# Altium schematic symbol library 10M08DCU324.SchLib: 1 symbol
Pins are listed as number, name and electrical type; pins without a type are passive.

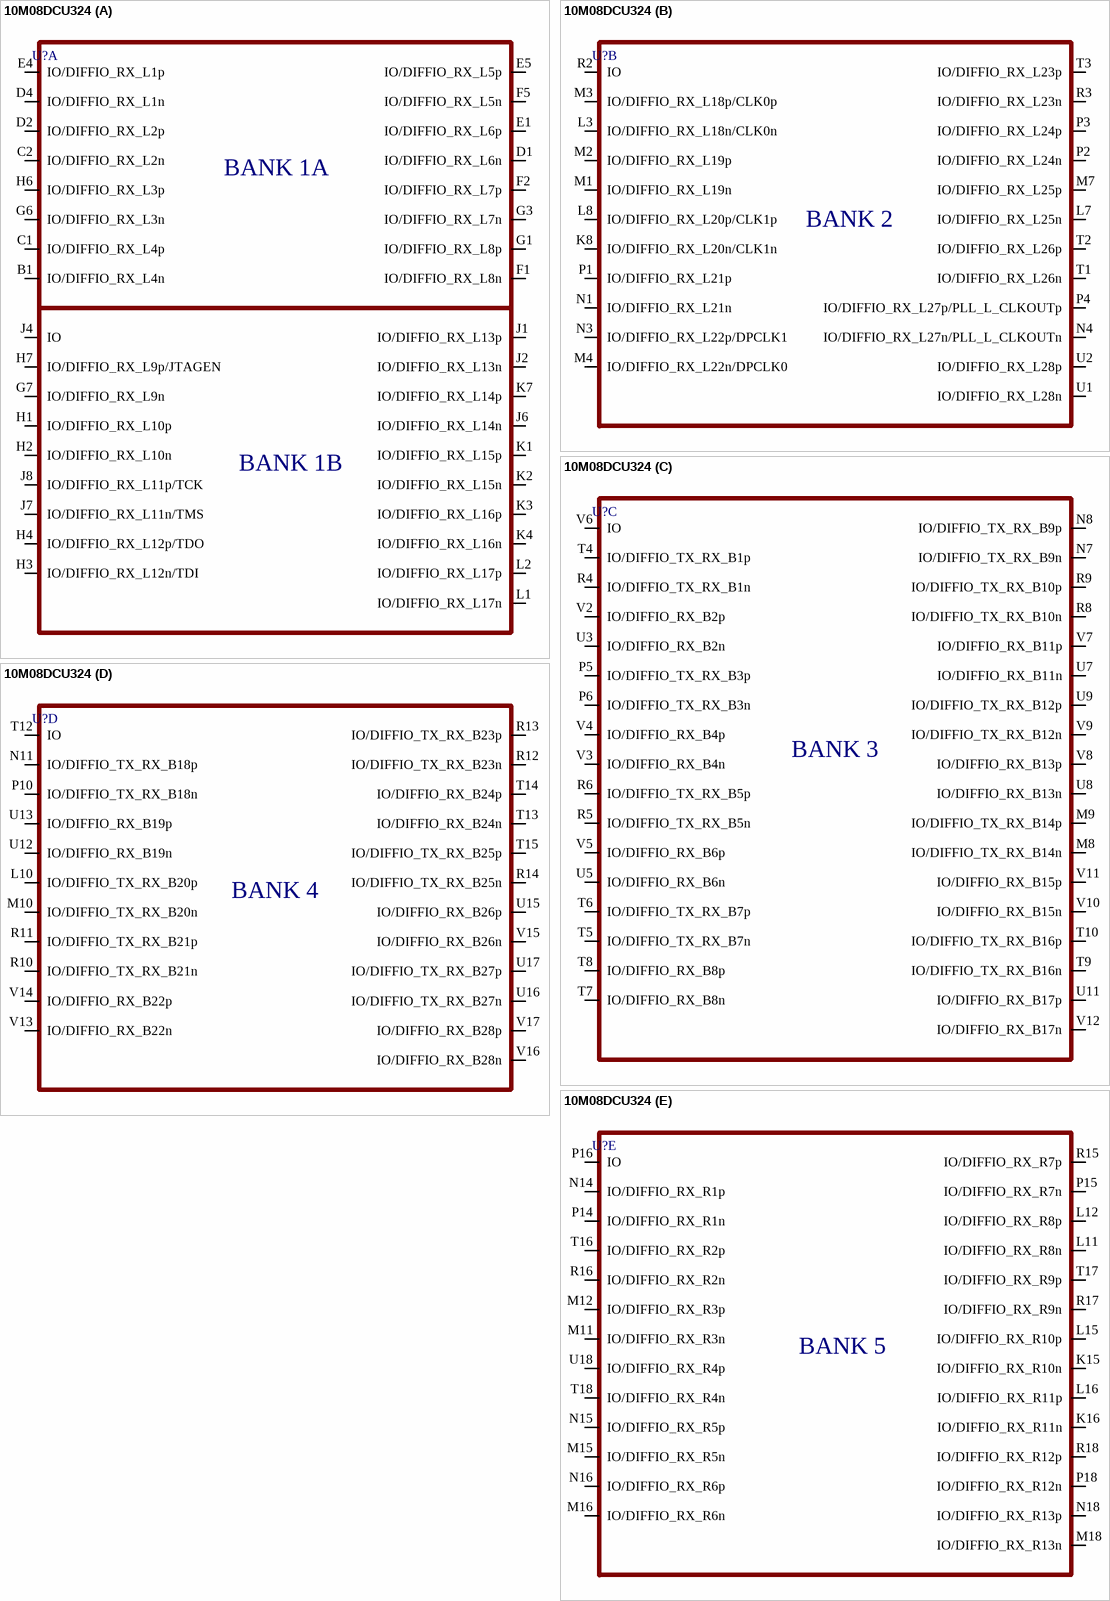
[diagram p0: symbol 10M08DCU324]

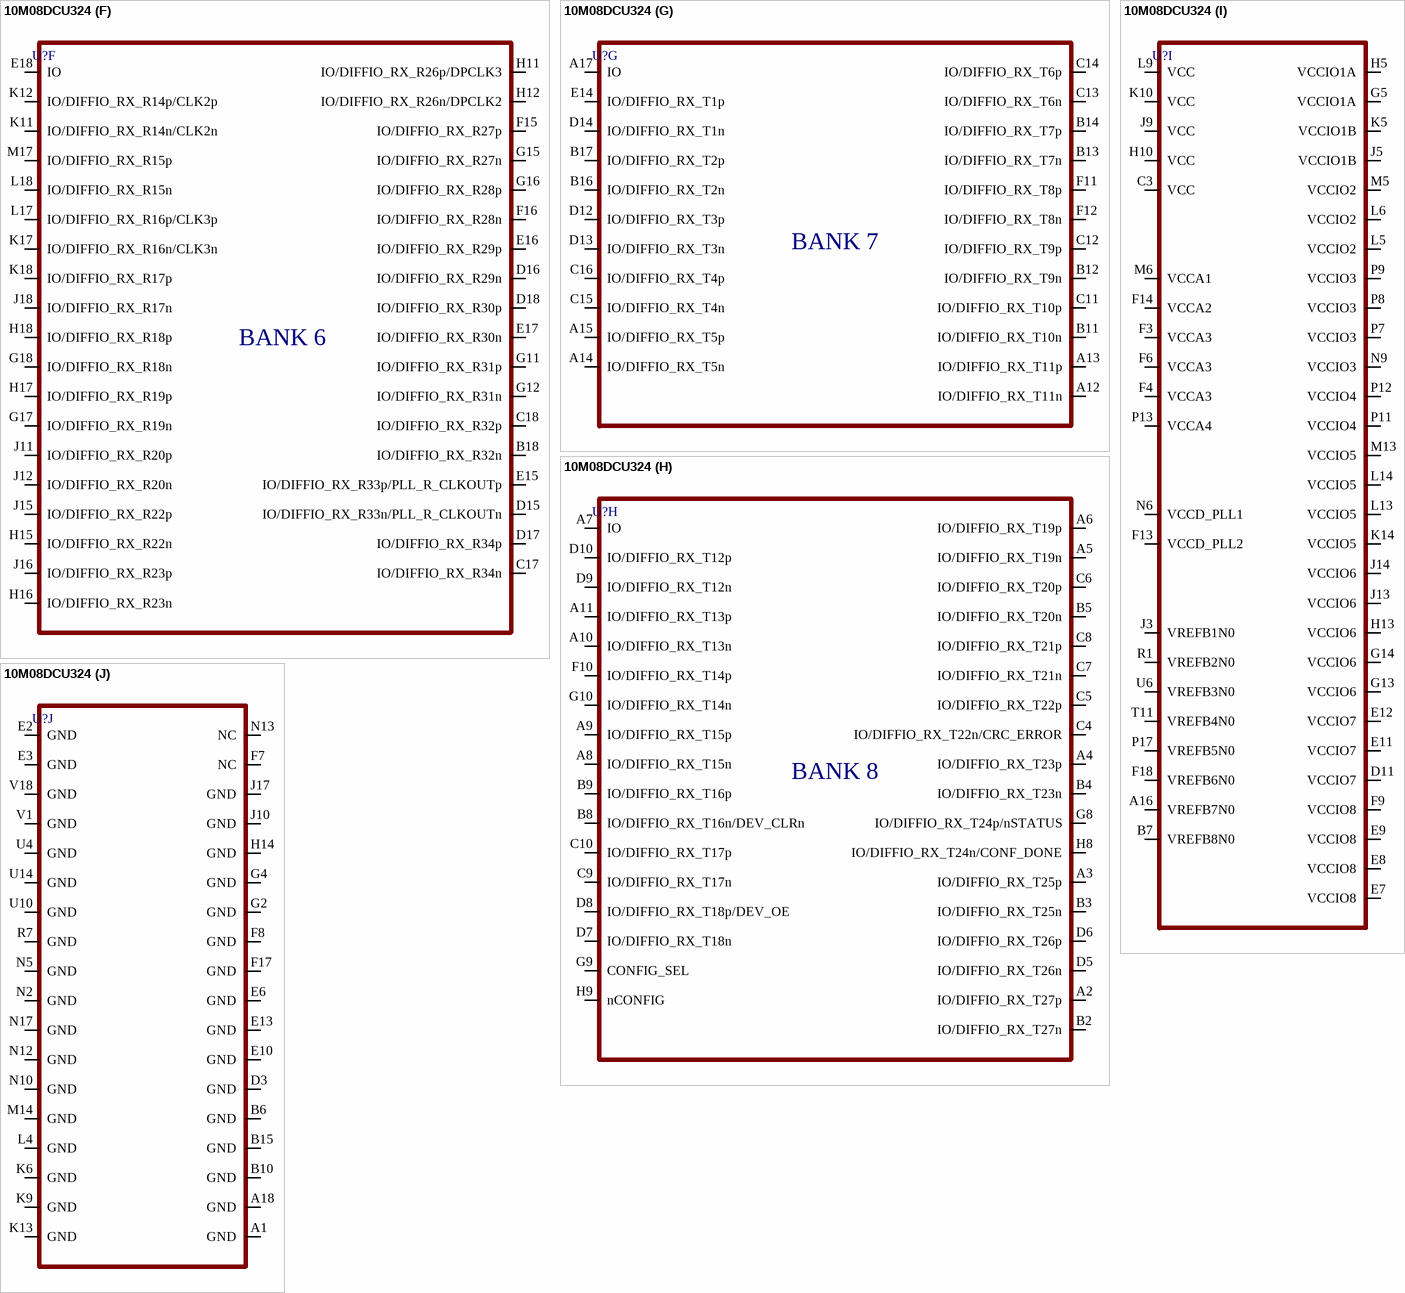
[diagram p1: symbol 10M08DCU324]

## 10M08DCU324
designator U?
part A pins: B1 IO/DIFFIO_RX_L4n, C1 IO/DIFFIO_RX_L4p, C2 IO/DIFFIO_RX_L2n, D1 IO/DIFFIO_RX_L6n, D2 IO/DIFFIO_RX_L2p, D4 IO/DIFFIO_RX_L1n, E1 IO/DIFFIO_RX_L6p, E4 IO/DIFFIO_RX_L1p, E5 IO/DIFFIO_RX_L5p, F1 IO/DIFFIO_RX_L8n, F2 IO/DIFFIO_RX_L7p, F5 IO/DIFFIO_RX_L5n, G1 IO/DIFFIO_RX_L8p, G3 IO/DIFFIO_RX_L7n, G6 IO/DIFFIO_RX_L3n, G7 IO/DIFFIO_RX_L9n, H1 IO/DIFFIO_RX_L10p, H2 IO/DIFFIO_RX_L10n, H3 IO/DIFFIO_RX_L12n/TDI, H4 IO/DIFFIO_RX_L12p/TDO, H6 IO/DIFFIO_RX_L3p, H7 IO/DIFFIO_RX_L9p/JTAGEN, J1 IO/DIFFIO_RX_L13p, J2 IO/DIFFIO_RX_L13n, J4 IO, J6 IO/DIFFIO_RX_L14n, J7 IO/DIFFIO_RX_L11n/TMS, J8 IO/DIFFIO_RX_L11p/TCK, K1 IO/DIFFIO_RX_L15p, K2 IO/DIFFIO_RX_L15n, K3 IO/DIFFIO_RX_L16p, K4 IO/DIFFIO_RX_L16n, K7 IO/DIFFIO_RX_L14p, L1 IO/DIFFIO_RX_L17n, L2 IO/DIFFIO_RX_L17p
part B pins: K8 IO/DIFFIO_RX_L20n/CLK1n, L3 IO/DIFFIO_RX_L18n/CLK0n, L7 IO/DIFFIO_RX_L25n, L8 IO/DIFFIO_RX_L20p/CLK1p, M1 IO/DIFFIO_RX_L19n, M2 IO/DIFFIO_RX_L19p, M3 IO/DIFFIO_RX_L18p/CLK0p, M4 IO/DIFFIO_RX_L22n/DPCLK0, M7 IO/DIFFIO_RX_L25p, N1 IO/DIFFIO_RX_L21n, N3 IO/DIFFIO_RX_L22p/DPCLK1, N4 IO/DIFFIO_RX_L27n/PLL_L_CLKOUTn, P1 IO/DIFFIO_RX_L21p, P2 IO/DIFFIO_RX_L24n, P3 IO/DIFFIO_RX_L24p, P4 IO/DIFFIO_RX_L27p/PLL_L_CLKOUTp, R2 IO, R3 IO/DIFFIO_RX_L23n, T1 IO/DIFFIO_RX_L26n, T2 IO/DIFFIO_RX_L26p, T3 IO/DIFFIO_RX_L23p, U1 IO/DIFFIO_RX_L28n, U2 IO/DIFFIO_RX_L28p
part C pins: M8 IO/DIFFIO_TX_RX_B14n, M9 IO/DIFFIO_TX_RX_B14p, N7 IO/DIFFIO_TX_RX_B9n, N8 IO/DIFFIO_TX_RX_B9p, P5 IO/DIFFIO_TX_RX_B3p, P6 IO/DIFFIO_TX_RX_B3n, R4 IO/DIFFIO_TX_RX_B1n, R5 IO/DIFFIO_TX_RX_B5n, R6 IO/DIFFIO_TX_RX_B5p, R8 IO/DIFFIO_TX_RX_B10n, R9 IO/DIFFIO_TX_RX_B10p, T4 IO/DIFFIO_TX_RX_B1p, T5 IO/DIFFIO_TX_RX_B7n, T6 IO/DIFFIO_TX_RX_B7p, T7 IO/DIFFIO_RX_B8n, T8 IO/DIFFIO_RX_B8p, T9 IO/DIFFIO_TX_RX_B16n, T10 IO/DIFFIO_TX_RX_B16p, U3 IO/DIFFIO_RX_B2n, U5 IO/DIFFIO_RX_B6n, U7 IO/DIFFIO_RX_B11n, U8 IO/DIFFIO_RX_B13n, U9 IO/DIFFIO_TX_RX_B12p, U11 IO/DIFFIO_RX_B17p, V2 IO/DIFFIO_RX_B2p, V3 IO/DIFFIO_RX_B4n, V4 IO/DIFFIO_RX_B4p, V5 IO/DIFFIO_RX_B6p, V6 IO, V7 IO/DIFFIO_RX_B11p, V8 IO/DIFFIO_RX_B13p, V9 IO/DIFFIO_TX_RX_B12n, V10 IO/DIFFIO_RX_B15n, V11 IO/DIFFIO_RX_B15p, V12 IO/DIFFIO_RX_B17n
part D pins: L10 IO/DIFFIO_TX_RX_B20p, M10 IO/DIFFIO_TX_RX_B20n, N11 IO/DIFFIO_TX_RX_B18p, P10 IO/DIFFIO_TX_RX_B18n, R10 IO/DIFFIO_TX_RX_B21n, R11 IO/DIFFIO_TX_RX_B21p, R12 IO/DIFFIO_TX_RX_B23n, R13 IO/DIFFIO_TX_RX_B23p, R14 IO/DIFFIO_TX_RX_B25n, T12 IO, T13 IO/DIFFIO_RX_B24n, T14 IO/DIFFIO_RX_B24p, T15 IO/DIFFIO_TX_RX_B25p, U12 IO/DIFFIO_RX_B19n, U13 IO/DIFFIO_RX_B19p, U15 IO/DIFFIO_RX_B26p, U16 IO/DIFFIO_TX_RX_B27n, U17 IO/DIFFIO_TX_RX_B27p, V13 IO/DIFFIO_RX_B22n, V14 IO/DIFFIO_RX_B22p, V15 IO/DIFFIO_RX_B26n, V16 IO/DIFFIO_RX_B28n, V17 IO/DIFFIO_RX_B28p
part E pins: K15 IO/DIFFIO_RX_R10n, K16 IO/DIFFIO_RX_R11n, L11 IO/DIFFIO_RX_R8n, L12 IO/DIFFIO_RX_R8p, L15 IO/DIFFIO_RX_R10p, L16 IO/DIFFIO_RX_R11p, M11 IO/DIFFIO_RX_R3n, M12 IO/DIFFIO_RX_R3p, M15 IO/DIFFIO_RX_R5n, M16 IO/DIFFIO_RX_R6n, M18 IO/DIFFIO_RX_R13n, N14 IO/DIFFIO_RX_R1p, N15 IO/DIFFIO_RX_R5p, N16 IO/DIFFIO_RX_R6p, N18 IO/DIFFIO_RX_R13p, P14 IO/DIFFIO_RX_R1n, P15 IO/DIFFIO_RX_R7n, P16 IO, P18 IO/DIFFIO_RX_R12n, R15 IO/DIFFIO_RX_R7p, R16 IO/DIFFIO_RX_R2n, R17 IO/DIFFIO_RX_R9n, R18 IO/DIFFIO_RX_R12p, T16 IO/DIFFIO_RX_R2p, T17 IO/DIFFIO_RX_R9p, T18 IO/DIFFIO_RX_R4n, U18 IO/DIFFIO_RX_R4p
part F pins: B18 IO/DIFFIO_RX_R32n, C17 IO/DIFFIO_RX_R34n, C18 IO/DIFFIO_RX_R32p, D15 IO/DIFFIO_RX_R33n/PLL_R_CLKOUTn, D16 IO/DIFFIO_RX_R29n, D17 IO/DIFFIO_RX_R34p, D18 IO/DIFFIO_RX_R30p, E15 IO/DIFFIO_RX_R33p/PLL_R_CLKOUTp, E16 IO/DIFFIO_RX_R29p, E17 IO/DIFFIO_RX_R30n, E18 IO, F15 IO/DIFFIO_RX_R27p, F16 IO/DIFFIO_RX_R28n, G11 IO/DIFFIO_RX_R31p, G12 IO/DIFFIO_RX_R31n, G15 IO/DIFFIO_RX_R27n, G16 IO/DIFFIO_RX_R28p, G17 IO/DIFFIO_RX_R19n, G18 IO/DIFFIO_RX_R18n, H11 IO/DIFFIO_RX_R26p/DPCLK3, H12 IO/DIFFIO_RX_R26n/DPCLK2, H15 IO/DIFFIO_RX_R22n, H16 IO/DIFFIO_RX_R23n, H17 IO/DIFFIO_RX_R19p, H18 IO/DIFFIO_RX_R18p, J11 IO/DIFFIO_RX_R20p, J12 IO/DIFFIO_RX_R20n, J15 IO/DIFFIO_RX_R22p, J16 IO/DIFFIO_RX_R23p, J18 IO/DIFFIO_RX_R17n, K11 IO/DIFFIO_RX_R14n/CLK2n, K12 IO/DIFFIO_RX_R14p/CLK2p, K17 IO/DIFFIO_RX_R16n/CLK3n, K18 IO/DIFFIO_RX_R17p, L17 IO/DIFFIO_RX_R16p/CLK3p, L18 IO/DIFFIO_RX_R15n, M17 IO/DIFFIO_RX_R15p
part G pins: A12 IO/DIFFIO_RX_T11n, A13 IO/DIFFIO_RX_T11p, A14 IO/DIFFIO_RX_T5n, A15 IO/DIFFIO_RX_T5p, A17 IO, B11 IO/DIFFIO_RX_T10n, B12 IO/DIFFIO_RX_T9n, B13 IO/DIFFIO_RX_T7n, B14 IO/DIFFIO_RX_T7p, B16 IO/DIFFIO_RX_T2n, B17 IO/DIFFIO_RX_T2p, C11 IO/DIFFIO_RX_T10p, C12 IO/DIFFIO_RX_T9p, C13 IO/DIFFIO_RX_T6n, C14 IO/DIFFIO_RX_T6p, C15 IO/DIFFIO_RX_T4n, C16 IO/DIFFIO_RX_T4p, D12 IO/DIFFIO_RX_T3p, D13 IO/DIFFIO_RX_T3n, D14 IO/DIFFIO_RX_T1n, E14 IO/DIFFIO_RX_T1p, F11 IO/DIFFIO_RX_T8p, F12 IO/DIFFIO_RX_T8n
part H pins: A2 IO/DIFFIO_RX_T27p, A3 IO/DIFFIO_RX_T25p, A4 IO/DIFFIO_RX_T23p, A5 IO/DIFFIO_RX_T19n, A6 IO/DIFFIO_RX_T19p, A7 IO, A8 IO/DIFFIO_RX_T15n, A9 IO/DIFFIO_RX_T15p, A10 IO/DIFFIO_RX_T13n, A11 IO/DIFFIO_RX_T13p, B2 IO/DIFFIO_RX_T27n, B3 IO/DIFFIO_RX_T25n, B4 IO/DIFFIO_RX_T23n, B5 IO/DIFFIO_RX_T20n, B8 IO/DIFFIO_RX_T16n/DEV_CLRn, B9 IO/DIFFIO_RX_T16p, C4 IO/DIFFIO_RX_T22n/CRC_ERROR, C5 IO/DIFFIO_RX_T22p, C6 IO/DIFFIO_RX_T20p, C7 IO/DIFFIO_RX_T21n, C8 IO/DIFFIO_RX_T21p, C9 IO/DIFFIO_RX_T17n, C10 IO/DIFFIO_RX_T17p, D5 IO/DIFFIO_RX_T26n, D6 IO/DIFFIO_RX_T26p, D7 IO/DIFFIO_RX_T18n, D8 IO/DIFFIO_RX_T18p/DEV_OE, D9 IO/DIFFIO_RX_T12n, D10 IO/DIFFIO_RX_T12p, F10 IO/DIFFIO_RX_T14p, G8 IO/DIFFIO_RX_T24p/nSTATUS, G9 CONFIG_SEL, G10 IO/DIFFIO_RX_T14n, H8 IO/DIFFIO_RX_T24n/CONF_DONE, H9 nCONFIG
part I pins: A16 VREFB7N0, B7 VREFB8N0, C3 VCC, D11 VCCIO7, E7 VCCIO8, E8 VCCIO8, E9 VCCIO8, E11 VCCIO7, E12 VCCIO7, F3 VCCA3, F4 VCCA3, F6 VCCA3, F9 VCCIO8, F13 VCCD_PLL2, F14 VCCA2, F18 VREFB6N0, G5 VCCIO1A, G13 VCCIO6, G14 VCCIO6, H5 VCCIO1A, H10 VCC, H13 VCCIO6, J3 VREFB1N0, J5 VCCIO1B, J9 VCC, J13 VCCIO6, J14 VCCIO6, K5 VCCIO1B, K10 VCC, K14 VCCIO5, L5 VCCIO2, L6 VCCIO2, L9 VCC, L13 VCCIO5, L14 VCCIO5, M5 VCCIO2, M6 VCCA1, M13 VCCIO5, N6 VCCD_PLL1, N9 VCCIO3, P7 VCCIO3, P8 VCCIO3, P9 VCCIO3, P11 VCCIO4, P12 VCCIO4, P13 VCCA4, P17 VREFB5N0, R1 VREFB2N0, T11 VREFB4N0, U6 VREFB3N0
part J pins: A1 GND, A18 GND, B6 GND, B10 GND, B15 GND, D3 GND, E2 GND, E3 GND, E6 GND, E10 GND, E13 GND, F7 NC, F8 GND, F17 GND, G2 GND, G4 GND, H14 GND, J10 GND, J17 GND, K6 GND, K9 GND, K13 GND, L4 GND, M14 GND, N2 GND, N5 GND, N10 GND, N12 GND, N13 NC, N17 GND, R7 GND, U4 GND, U10 GND, U14 GND, V1 GND, V18 GND
part A text: BANK 1A; BANK 1B
part B text: BANK 2
part C text: BANK 3
part D text: BANK 4
part E text: BANK 5
part F text: BANK 6
part G text: BANK 7
part H text: BANK 8